# EAGLE library part PT07,5-2 (library trafo)
TRANSFORMER 1 primary winding, temp. protection fuse, 2 secondary windings, mounting holes BLOCK
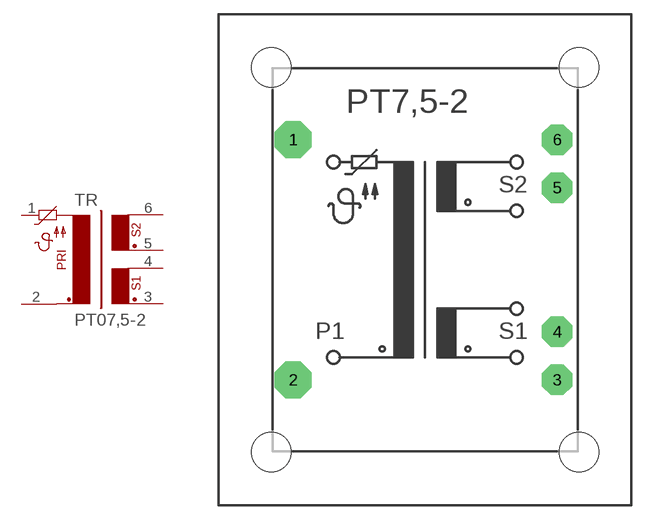
[diagram p20: symbol with the pads of PT07,5-2; footprint PT07,5-2]

Designator prefix TR

## PT07,5-2  [PT07,5-2]
1  1  pas
2  2  pas
3  3  pas
4  4  pas
5  5  pas
6  6  pas

## Footprint PT07,5-2 (pad centres in mm)
TRANSFORMER 1 primary winding, 2 secondary windings, temp. protection fuse, mounting holes
drill 1.397 pad 3.81 octagon: 1 -13.741,12.497; 2 -13.741,-12.497
drill 1.397 pad 3.175 octagon: 3 13.741,-12.497; 4 13.741,-7.493; 5 13.741,7.493; 6 13.741,12.497
hole 4.115 at -16.002,-19.99
hole 4.115 at 16.002,-19.99
hole 4.115 at 16.002,19.99
hole 4.115 at -16.002,19.99